# EAGLE library part HBRIDGE (library maciver_robot_lib)
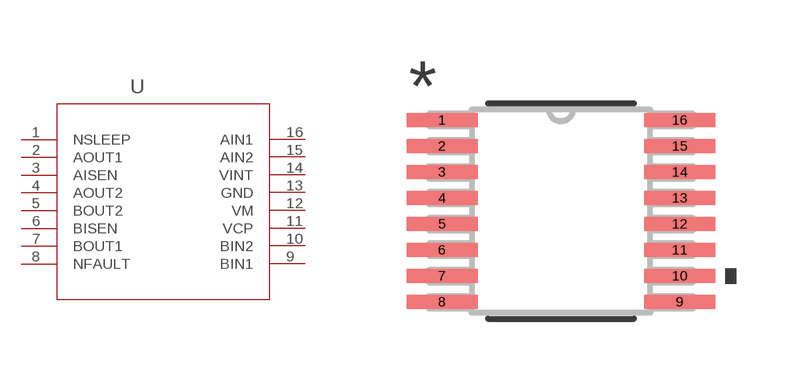
[diagram p2: symbol with the pads of HBRIDGE; footprint HBRIDGE]

Designator prefix U

## HBRIDGEPW16_TEX-M (COPYRIGHT: Copyright (C) 2022 Ultra Librarian. All rights reserved.; DIGI-KEY_PART_NUMBER_1: DRV8833PW-ND; DIGI-KEY_PART_NUMBER_2: 2156-DRV8833PW-ND; MANUFACTURER_PART_NUMBER: DRV8833PW; MFR_NAME: Texas Instruments)  [HBRIDGE]
1  NSLEEP  in
2  AOUT1  out
3  AISEN
4  AOUT2  out
5  BOUT2  out
6  BISEN
7  BOUT1  out
8  NFAULT  out
9  BIN1  in
10  BIN2  in
11  VCP
12  VM  pwr
13  GND  pwr
14  VINT  pas
15  AIN2  in
16  AIN1  in

## Footprint HBRIDGE (pad centres in mm)
smd 1.778 x 0.356: 1 -2.972,2.275; 2 -2.972,1.625; 3 -2.972,0.975; 4 -2.972,0.325; 5 -2.972,-0.325; 6 -2.972,-0.975; 7 -2.972,-1.625; 8 -2.972,-2.275; 9 2.972,-2.275; 10 2.972,-1.625; 11 2.972,-0.975; 12 2.972,-0.325; 13 2.972,0.325; 14 2.972,0.975; 15 2.972,1.625; 16 2.972,2.275